# Altium schematic symbol library THD-SCHLIB.SchLib: 12 symbols
Pins are listed as number, name and electrical type; pins without a type are passive.

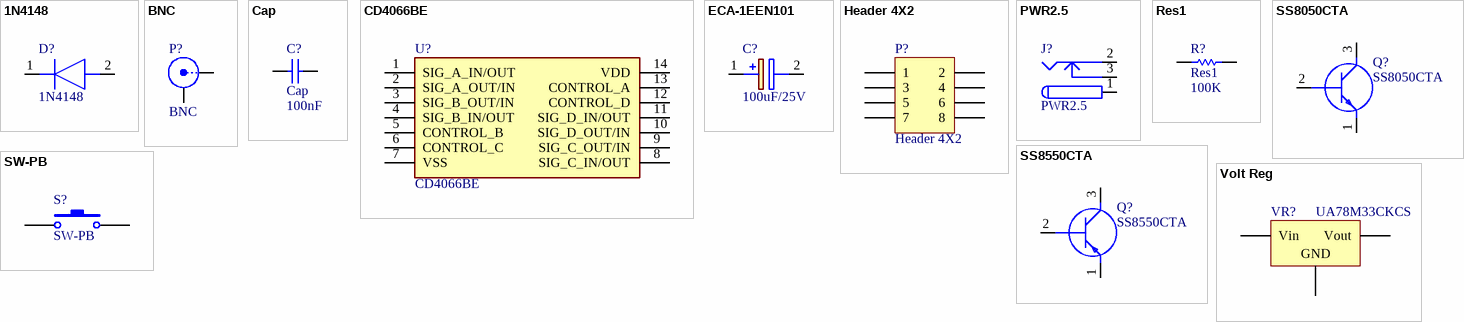
[diagram p0: symbols 1N4148 to Volt Reg]

## 1N4148
designator D?
Diode; Manufacturer_Name: onsemi; Manufacturer_Part_Number: 1N4148; Mouser Part Number: 512-1N4148; Mouser Price/Stock: https://www.mouser.co.uk/ProductDetail/ON-Semiconductor-Fairchild/1N4148?qs=i4Fj9T%2FoRm8RMUhj5DeFQg%3D%3D; Arrow Part Number: 1N4148; Arrow Price/Stock: https://www.arrow.com/en/products/1n4148/on-semiconductor?region=europe
footprint DIOAD1068W53L380D172
pins: 1 K, 2 A

## BNC
designator P?
BNC Elbow Connector; LatestRevisionDate: 17-Jul-2002; LatestRevisionNote: Re-released for DXP Platform.; Publisher: Altium Limited
signal-integrity model Connector
footprint BNC_RA-CON (Connector; BNC Elbow)
pins: 1 X, 2 Y

## Cap
designator C?  value 100nF
Capacitor; Published: 8-Jun-2000; LatestRevisionDate: 17-Jul-2002; LatestRevisionNote: Re-released for DXP Platform.; PackageReference: RAD-0.3; Publisher: Altium Limited; PackageDescription: Radial Cap, Thru-Hole; 2 Leads; 0.3 in Pin Spacing
footprint RAD-0.2-cap (Radial Cap, Thru-Hole; 2 Leads; 0.2 in Pin Spacing)
simulation model CAP (Capacitor)
signal-integrity model Cap
pins: 1, 2

## CD4066BE
designator U?
Integrated Circuit; Manufacturer_Name: Texas Instruments; Datasheet Link: https://datasheet.datasheetarchive.com/originals/distributors/Datasheets-SFU2/DSASFU100028824.pdf; Height: 5.08mm; Manufacturer_Part_Number: CD4066BE; Mouser Part Number: 595-CD4066BE; Mouser Price/Stock: https://www.mouser.co.uk/ProductDetail/Texas-Instruments/CD4066BE?qs=mTHRaKC2c7ObpofRtjqLig%3D%3D; Arrow Part Number: CD4066BE; Arrow Price/Stock: https://www.arrow.com/en/products/cd4066be/texas-instruments?region=nac
footprint DIP794W53P254L1930H508Q14N
pins: 1 SIG_A_IN/OUT, 2 SIG_A_OUT/IN, 3 SIG_B_OUT/IN, 4 SIG_B_IN/OUT, 5 CONTROL_B, 6 CONTROL_C, 7 VSS, 8 SIG_C_IN/OUT, 9 SIG_C_OUT/IN, 10 SIG_D_OUT/IN, 11 SIG_D_IN/OUT, 12 CONTROL_D, 13 CONTROL_A, 14 VDD

## ECA-1EEN101
designator C?, comment 100uF/25V
Capacitor Polarised; Manufacturer_Name: Panasonic; Manufacturer_Part_Number: ECA-1EEN101; Datasheet Link: https://www.mouser.in/datasheet/2/315/ABA0000C1044-947503.pdf; Height: 12.5mm; Mouser Part Number: 667-ECA-1EEN101; Mouser Price/Stock: https://www.mouser.co.uk/ProductDetail/Panasonic/ECA-1EEN101?qs=tfZGHB2PWd0NYnCl82fG3g%3D%3D
footprint CAPPRD350W65D800H1250
pins: 1 +, 2 -

## Header 4X2
designator P?
Header, 4-Pin, Dual row; LatestRevisionDate: 17-Jul-2002; LatestRevisionNote: Re-released for DXP Platform.; Publisher: Altium Limited
footprint IDC-8
signal-integrity model Connector
pins: 1, 2, 3, 4, 5, 6, 7, 8

## PWR2.5
designator J?
Low Voltage Power Supply Connector; Published: 17-Dec-2003; DatasheetDocument: 09-May-2002; Publisher: Altium Limited; ComponentLink1Description: Manufacturer Link; ComponentLink1URL: http://domino.kycon.com/internet/Products.html
footprint KOBI-16PJ032_V
signal-integrity model Connector
pins: 1 (power), 2 (power), 3 (power)

## Res1
designator R?  value 100K
Resistor; Published: 8-Jun-2000; LatestRevisionDate: 17-Jul-2002; LatestRevisionNote: Re-released for DXP Platform.; PackageReference: AXIAL-0.3; Publisher: Altium Limited; PackageDescription: Axial Device, Thru-Hole; 2 Leads; 0.3 in Pin Spacing
simulation model RESISTOR (Resistor)
signal-integrity model Res
footprint RES-AXIAL-0.4
pins: 1, 2

## SS8050CTA
designator Q?
Transistor BJT NPN; Manufacturer_Name: onsemi; Datasheet Link: http://www.onsemi.com/pub/Collateral/SS8050-D.pdf; Manufacturer_Part_Number: SS8050CTA; Mouser Part Number: 512-SS8050CTA; Mouser Price/Stock: https://www.mouser.co.uk/ProductDetail/ON-Semiconductor-Fairchild/SS8050CTA?qs=UMEuL5FsraCvGU9pAIJ0vg%3D%3D; Arrow Part Number: SS8050CTA; Arrow Price/Stock: https://www.arrow.com/en/products/ss8050cta/on-semiconductor?region=europe
footprint TO-92-3
pins: 1 E, 2 B, 3 C

## SS8550CTA
designator Q?
Transistor BJT PNP; Manufacturer_Name: onsemi; Datasheet Link: https://www.onsemi.com/pub/Collateral/SS8550-D.pdf; Manufacturer_Part_Number: SS8550CTA; Mouser Part Number: 512-SS8550CTA; Mouser Price/Stock: https://www.mouser.co.uk/ProductDetail/ON-Semiconductor-Fairchild/SS8550CTA?qs=UMEuL5FsraCgmcObR%2FdvUQ%3D%3D; Arrow Part Number: SS8550CTA; Arrow Price/Stock: https://www.arrow.com/en/products/ss8550cta/on-semiconductor?region=nac
footprint TO-92-3
pins: 1 E, 2 B, 3 C

## SW-PB
designator S?
Switch; Published: 24-Mar-1999; LatestRevisionDate: 17-Jul-2002; LatestRevisionNote: Re-released for DXP Platform.; PackageReference: SPST-2; Publisher: Altium Limited; PackageDescription: Switch; 2 Leads
footprint FSM18JH
pins: 1, 2

## Volt Reg
designator VR?, comment UA78M33CKCS
Voltage Regulator; Published: 24-Mar-1999; LatestRevisionDate: 29-May-2009; LatestRevisionNote: IPC-7351 Footprint Added.; PackageReference: D2PAK; Publisher: Altium Limited; PackageDescription: 3-Pin Transistor Outline Package 2.54 mm Pitch, 15.1 mm Lead Span
footprint TO254P470X1016X1965-3P
pins: 1 Vin, 2 GND, 3 Vout